# Altium schematic symbol library actives.SchLib: 47 symbols
Pins are listed as number, name and electrical type; pins without a type are passive.

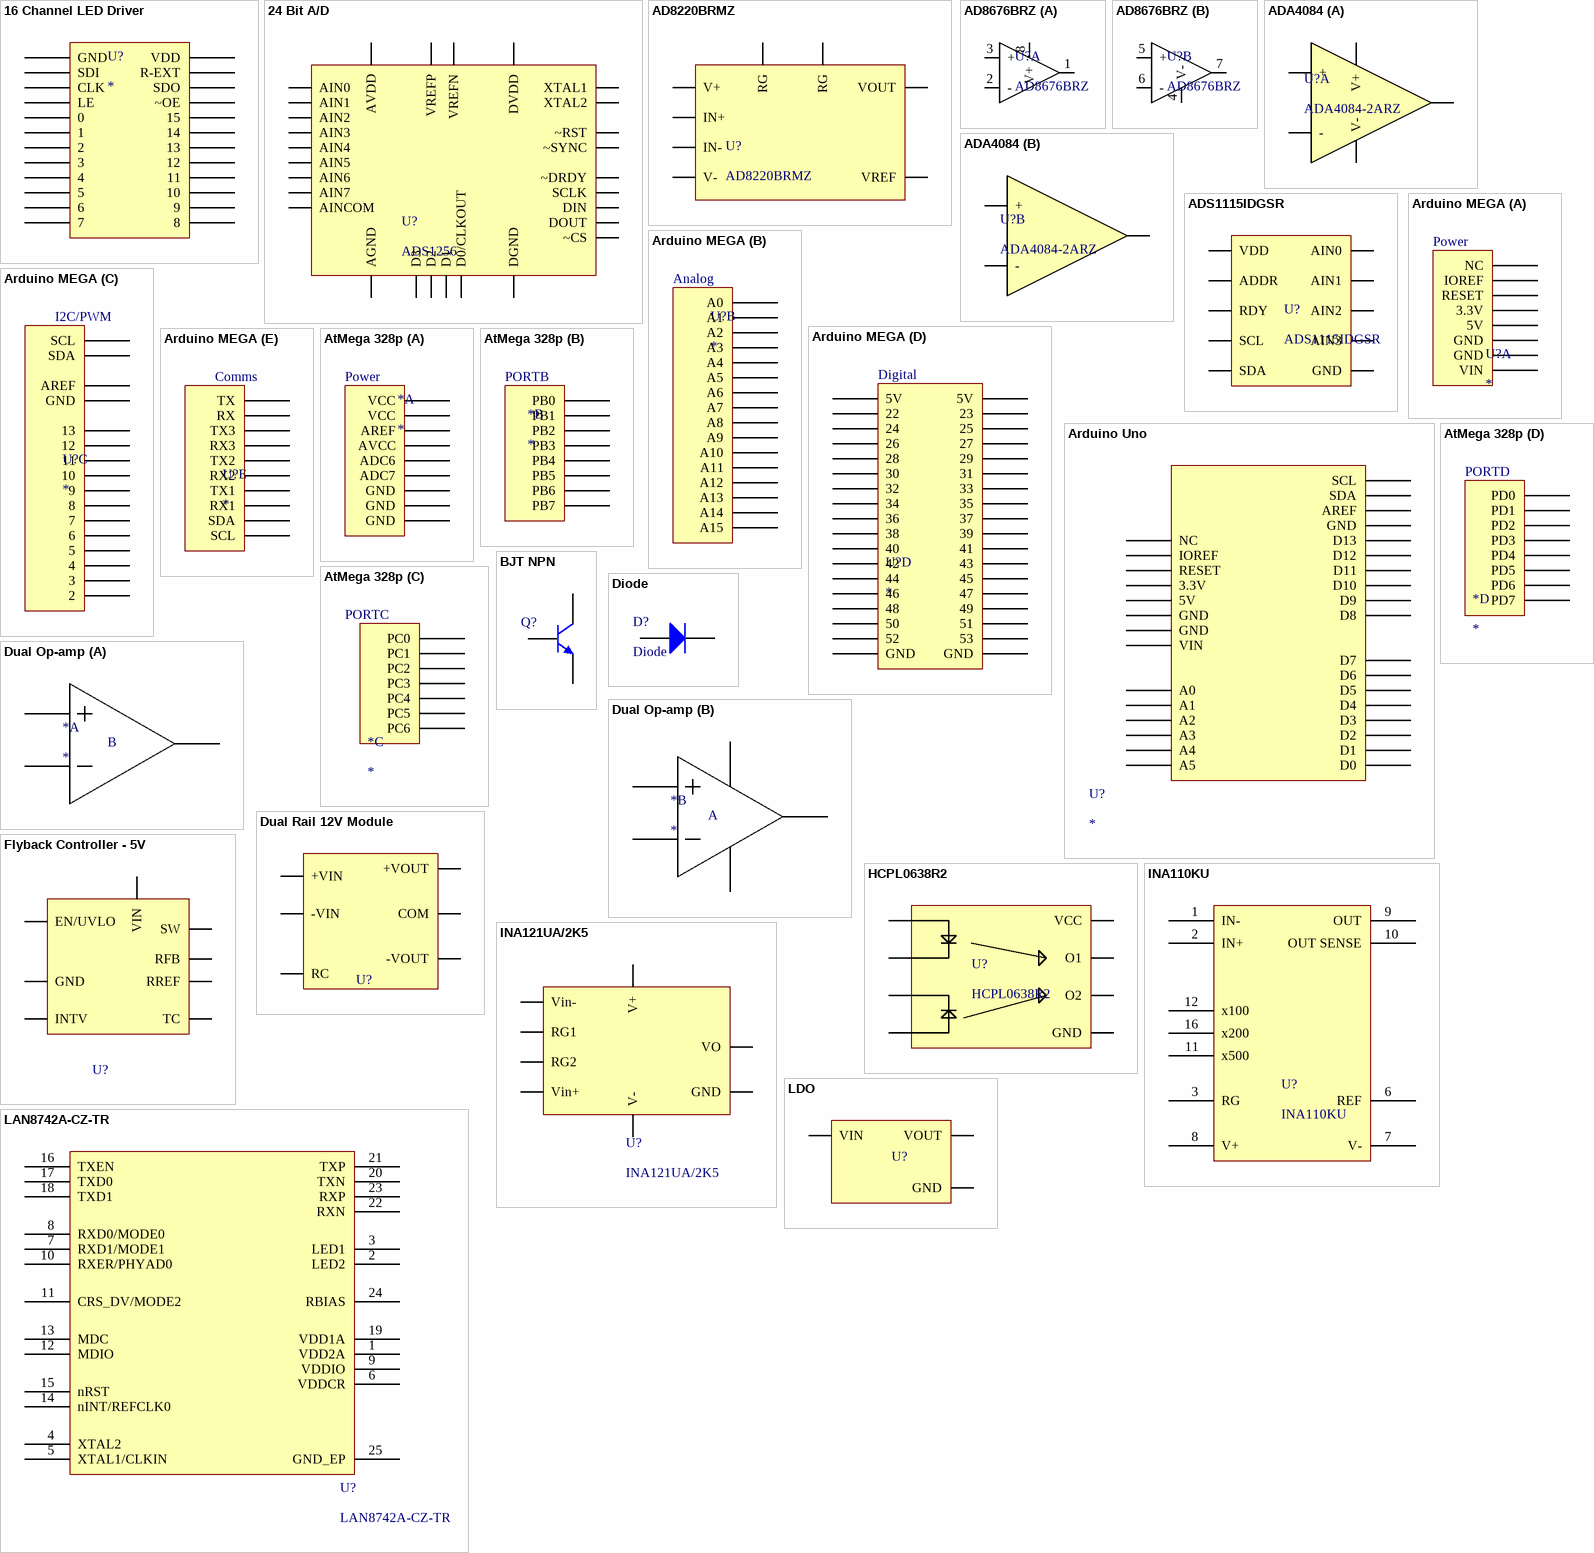
[diagram p0: symbols 16 Channel LED Driver to LDO]

## 16 Channel LED Driver
designator U?
16 Channel LED Driver; Manufactuerer Part #: STP16CPC26MTR; Manufactuerer Part #: TLC5925IDWR
footprint SOIC-24
pins: 1 GND, 2 SDI, 3 CLK, 4 LE, 5 0, 6 1, 7 2, 8 3, 9 4, 10 5, 11 6, 12 7, 13 8, 14 9, 15 10, 16 11, 17 12, 18 13, 19 14, 20 15, 21 ~OE, 22 SDO, 23 R-EXT, 24 VDD

## 24 Bit A/D
designator U?, comment ADS1256
ADS1256 24-bit A/D; Manufacturer Part #: ADS1256IDBR; Manufacturer: Texas Instruments; Inputs: 8; Bit Depth: 24; Digikey Part #: 296-25898-1-ND
footprint SSOP28
pins: 1 AVDD, 2 AGND, 3 VREFN, 4 VREFP, 5 AINCOM, 6 AIN0, 7 AIN1, 8 AIN2, 9 AIN3, 10 AIN4, 11 AIN5, 12 AIN6, 13 AIN7, 14 ~SYNC, 15 ~RST, 16 DVDD, 17 DGND, 18 XTAL2, 19 XTAL1, 20 ~CS, 21 ~DRDY, 22 DOUT, 23 DIN, 24 SCLK, 25 D0/CLKOUT, 26 D1, 27 D2, 28 D3

## AD8220BRMZ
designator U?
IC INST AMP 1 CIRCUIT 8MSOP; Manufacturer: Analog Devices Inc.; Part Number: AD8220BRMZ; Digikey Part Number: AD8220BRMZ-ND
footprint MSSOP-8
pins: 1 IN-, 2 RG, 3 RG, 4 IN+, 5 V-, 6 VREF, 7 VOUT, 8 V+

## AD8676BRZ
designator U?
IC OPAMP GP 2 CIRCUIT 8SOIC; Manufacturer: Analog Devices Inc.; Part Number: AD8676BRZ; Digikey Part Number: AD8676BRZ-ND
footprint SOIC8
part A pins: 1 OUT, 2 -, 3 +, 8 V+
part B pins: 4 V-, 5 +, 6 -, 7 OUT

## ADA4084
designator U?, comment ADA4084-2ARZ
IC OPAMP GP 2 CIRCUIT 8SOIC; Manufacturer: Analog Devices Inc.; Part Number: ADA4084-2ARZ; Digikey Part Number: ADA4084-2ARZ-ND
footprint SOIC8
part A pins: 1, 2 -, 3 +, 4 V-, 8 V+
part B pins: 5 +, 6 -, 7

## ADS1115IDGSR
designator U?
IC ADC 16BIT SIGMA-DELTA 10VSSOP; Manufacturer: Texas Instruments; Part Number: ADS1115IDGSR; Digikey Part Number: 296-38849-1-ND
footprint VSSOP-10
pins: 1 ADDR, 2 RDY, 3 GND, 4 AIN0, 5 AIN1, 6 AIN2, 7 AIN3, 8 VDD, 9 SDA, 10 SCL

## Arduino MEGA
designator U?
Arduino MEGA 2560
footprint Arduino_mega
part A pins: 62 NC, 63 IOREF, 64 RESET, 65 3.3V, 66 5V, 67 GND, 68 GND, 69 VIN
part B pins: 70 A0, 71 A1, 72 A2, 73 A3, 74 A4, 75 A5, 76 A6, 77 A7, 78 A8, 79 A9, 80 A10, 81 A11, 82 A12, 83 A13, 84 A14, 85 A15
part C pins: 2, 3, 4, 5, 6, 7, 8, 9, 10, 11, 12, 13, 54 SCL, 55 SDA, 56 AREF, 57 GND
part D pins: 22, 23, 24, 25, 26, 27, 28, 29, 30, 31, 32, 33, 34, 35, 36, 37, 38, 39, 40, 41, 42, 43, 44, 45, 46, 47, 48, 49, 50, 51, 52, 53, 58 5V, 59 5V, 60 GND, 61 GND
part E pins: 0 RX, 1 TX, 14 TX3, 15 RX3, 16 TX2, 17 RX2, 18 TX1, 19 RX1, 20 SDA, 21 SCL
part A text: Power
part B text: Analog
part C text: I2C/PWM
part D text: Digital
part E text: Comms

## Arduino Uno
designator U?
Arduino Uno Shield
footprint Arduino_Uno
pins: 0 D0, 1 D1, 2 D2, 3 D3, 4 D4, 5 D5, 6 D6, 7 D7, 8 D8, 9 D9, 10 D10, 11 D11, 12 D12, 13 D13, 14 GND, 15 AREF, 16 SDA, 17 SCL, 18 A5, 19 A4, 20 A3, 21 A2, 22 A1, 23 A0, 24 VIN, 25 GND, 26 GND, 27 5V, 28 3.3V, 29 RESET, 30 IOREF, 31 NC

## AtMega 328p
designator *
AtMega 328p SMD
footprint TQFP-32
part A pins: 3 GND, 4 VCC, 5 GND, 6 VCC, 18 AVCC, 19 ADC6, 20 AREF, 21 GND, 22 ADC7
part B pins: 7 PB6, 8 PB7, 12 PB0, 13 PB1, 14 PB2, 15 PB3, 16 PB4, 17 PB5
part C pins: 23 PC0, 24 PC1, 25 PC2, 26 PC3, 27 PC4, 28 PC5, 29 PC6
part D pins: 1 PD3, 2 PD4, 9 PD5, 10 PD6, 11 PD7, 30 PD0, 31 PD1, 32 PD2
part A text: Power
part B text: PORTB
part C text: PORTC
part D text: PORTD

## BJT NPN
designator Q?, comment NPN  (value not drawn)
MMBT2222
footprint SOT-23
pins: 1 B, 2 E, 3 C

## Diode
designator D?
1N4007
footprint Diode TH
pins: 1 A, 2 K

## Dual Op-amp
designator *
Dual Op-amp
footprint SOIC8
part A pins: 5, 6, 7
part B pins: 1, 2, 3, 4, 8
part A text: B
part B text: A

## Dual Rail 12V Module
designator U?  (value not drawn)
+/- 12V Module; Manufacturer Part #: CCG304812D; Manufacturer: TDK-Lambda Americas; Digikey Part #: 285-2996-ND
footprint 6-DIP Module
pins: 1 RC, 2 -VIN, 3 +VIN, 4 -VOUT, 5 COM, 6 +VOUT

## Flyback Controller - 5V
designator U?  (value not drawn)
Flyback Regulator 5V; Manufacturer Part #: LT8304ES8E-1#PBF; Manufacturer: Analog Devices; Digikey Part #: LT8304ES8E-1#PBF-ND
footprint SOIC-8 POWERPAD
pins: 1 EN/UVLO, 2 INTV, 3 VIN, 4 GND, 5 SW, 6 RFB, 7 RREF, 8 TC

## HCPL0638R2
designator U?
OPTOISO 3.75KV 2CH OPEN COLL 8SO; Manufacturer: ON Semiconductor; Part Number: HCPL0638R2; Digikey Part Number: HCPL0638R2CT-ND
footprint SOIC8
pins: 1 +1, 2 41, 3, 4, 5 GND, 6 O2, 7 O1, 8 VCC

## INA110KU
designator U?
IC INST AMP 1 CIRCUIT 16SOIC; Manufacturer: Texas Instruments; Part Number: INA110KU; Digikey Part Number: INA110KU-ND
footprint SOIC-16
pins: 1 IN-, 2 IN+, 3 RG, 6 REF, 7 V-, 8 V+, 9 OUT, 10 OUT SENSE, 11 x500, 12 x100, 16 x200

## INA121UA/2K5
designator U?
IC INST AMP 1 CIRCUIT 8SOIC; Manufacturer: Texas Instruments; Digikey Part #: 296-38944-1-ND; Manufacturer Part #: INA121UA/2K5
footprint SOIC8
pins: 1 RG1, 2 Vin-, 3 Vin+, 4 V-, 5 GND, 6 VO, 7 V+, 8 RG2

## LAN8742A-CZ-TR
designator U?
IC TRANSCEIVER 1/1 24SQFN; Manufacturer: Microchip Technology; Part Number: LAN8742A-CZ-TR; Digikey Part Number: LAN8742A-CZ-CT-ND
footprint SQFN24_4X4MC
pins: 1 VDD2A, 2 LED2, 3 LED1, 4 XTAL2, 5 XTAL1/CLKIN, 6 VDDCR, 7 RXD1/MODE1, 8 RXD0/MODE0, 9 VDDIO, 10 RXER/PHYAD0, 11 CRS_DV/MODE2, 12 MDIO, 13 MDC, 14 nINT/REFCLK0, 15 nRST, 16 TXEN, 17 TXD0, 18 TXD1, 19 VDD1A, 20 TXN, 21 TXP, 22 RXN, 23 RXP, 24 RBIAS, 25 GND_EP

## LDO
designator U?  (value not drawn)
Linear Regulator
footprint DPAK
footprint D2PAK
pins: 1 VIN, 2 GND, 3 VOUT

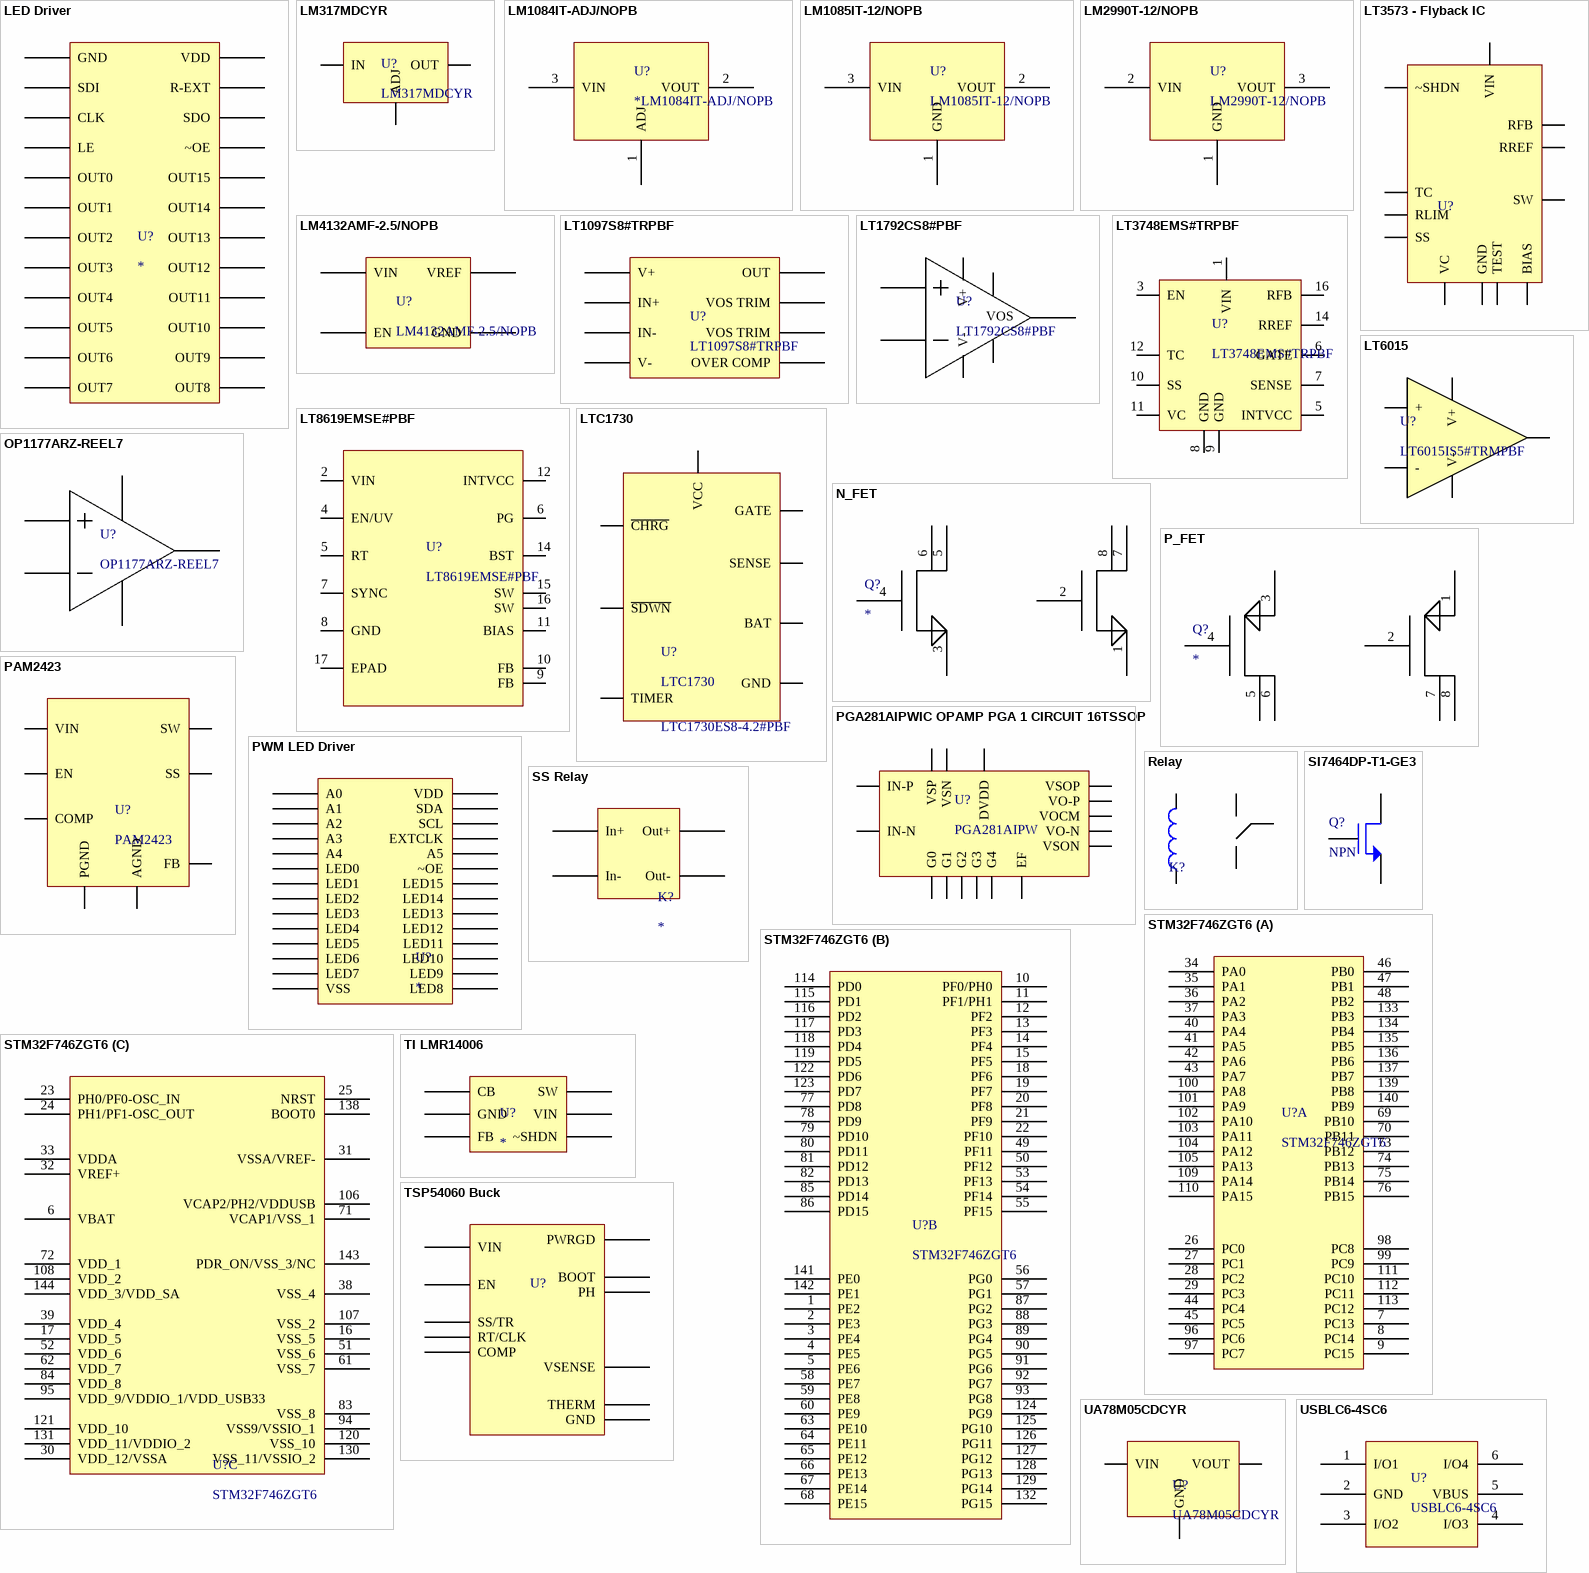
[diagram p1: symbols LED Driver to USBLC6-4SC6]

## LED Driver
designator U?
STP16CPC26TTR
footprint TSSOP24
pins: 1 GND, 2 SDI, 3 CLK, 4 LE, 5 OUT0, 6 OUT1, 7 OUT2, 8 OUT3, 9 OUT4, 10 OUT5, 11 OUT6, 12 OUT7, 13 OUT8, 14 OUT9, 15 OUT10, 16 OUT11, 17 OUT12, 18 OUT13, 19 OUT14, 20 OUT15, 21 ~OE, 22 SDO, 23 R-EXT, 24 VDD

## LM317MDCYR
designator U?
IC REG LIN POS ADJ 500MA SOT223; Manufacturer: Texas Instruments; Part Number: LM317MDCYR; Digikey Part Number: 296-12631-1-ND
footprint SOT-223-4
pins: 1 ADJ, 2 OUT, 3 IN

## LM1084IT-ADJ/NOPB
designator U?, comment *LM1084IT-ADJ/NOPB
IC REG LINEAR POS ADJ 5A TO220-3; Manufacturer: Texas Instruments; Part Number: LM1084IT-ADJ/NOPB; Digikey Part Number: LM1084IT-ADJ/NOPB-ND
footprint TO-220-3
pins: 1 ADJ, 2 VOUT, 3 VIN

## LM1085IT-12/NOPB
designator U?
IC REG LINEAR 12V 3A TO220-3; Manufacturer: Texas Instruments; Part Number: LM1085IT-12/NOPB; Digikey Part Number: LM1085IT-12/NOPB-ND
footprint TO-220-3
pins: 1 GND, 2 VOUT, 3 VIN

## LM2990T-12/NOPB
designator U?
IC REG LINEAR -12V 1.8A TO220-3; Manufacturer: Texas Instruments; Part Number: LM2990T-12/NOPB; Digikey Part Number: LM2990T-12/NOPB-ND
footprint TO-220-3
pins: 1 GND, 2 VIN, 3 VOUT

## LM4132AMF-2.5/NOPB
designator U?
IC VREF SERIES 0.05% SOT23-5; Manufacturer: Texas Instruments; Part Number: LM4132AMF-2.5/NOPB; Digikey Part Number: LM4132AMF-2.5/NOPBCT-ND
footprint SOT-23-5
pins: 2 GND, 3 EN, 4 VIN, 5 VREF

## LT1097S8#TRPBF
designator U?
IC OPAMP GP 1 CIRCUIT 8SO; Manufacturer: Linear Technology/Analog Devices; Part Number: LT1097S8#TRPBF; Digikey Part Number: LT1097S8#TRPBFCT-ND
footprint SOIC8
pins: 1 VOS TRIM, 2 IN-, 3 IN+, 4 V-, 5 OVER COMP, 6 OUT, 7 V+, 8 VOS TRIM

## LT1792CS8#PBF
designator U?
IC OPAMP JFET 1 CIRCUIT 8SO; Part Number: LT1792CS8#PBF-ND; Manufacturer: Analog Devices Inc.; Digikey Part Number: LT1792CS8#PBF
footprint SOIC8
pins: 1 VOS, 2, 3, 4 V-, 5 VOS, 6, 7 V+

## LT3573 - Flyback IC
designator U?, comment LT3573  (value not drawn)
Flyback Controller; Manufacturer Part #: LT3573EMSE#TRPBF; Manufacturer: Analog Devices; Digikey Part #: LT3573EMSE#TRPBFCT-ND
footprint LT3573
pins: 1 GND, 2 TEST, 4 SW, 5 VIN, 6 BIAS, 7 ~SHDN, 10 SS, 11 RLIM, 12 VC, 13 RFB, 14 RREF, 15 TC

## LT3748EMS#TRPBF
designator U?
IC REG CTRLR FLYBACK 16MSOP; Manufacturer: Linear Technology/Analog Devices; Part Number: LT3748EMS#TRPBF; Digikey Part Number: LT3748EMS#TRPBFCT-ND
footprint MSSOP-16 (12 pin)
pins: 1 VIN, 3 EN, 5 INTVCC, 6 GATE, 7 SENSE, 8 GND, 9 GND, 10 SS, 11 VC, 12 TC, 14 RREF, 16 RFB

## LT6015
designator U?, comment LT6015IS5#TRMPBF
IC OPAMP GP 1 CIRCUIT TSOT23-5; Manufacturer: Linear Technology/Analog Devices; Part Number: LT6015IS5#TRMPBF; Digikey Part Number: LT6015IS5#TRMPBFCT-ND
footprint SOT-23-5
pins: 1, 2 V-, 3 +, 4 -, 5 V+

## LT8619EMSE#PBF
designator U?
IC REG BUCK 0.8V 1.2A 16MSOP; Manufacturer: Linear Technology/Analog Devices; Part Number: LT8619EMSE#PBF; Digikey Part Number: LT8619EMSE#PBF-ND
footprint MSSOP-16-EPAD
pins: 2 VIN, 4 EN/UV, 5 RT, 6 PG, 7 SYNC, 8 GND, 9 FB, 10 FB, 11 BIAS, 12 INTVCC, 14 BST, 15 SW, 16 SW, 17 EPAD

## LTC1730
designator U?  Manufacturer Part Number: LTC1730ES8-4.2#PBF
IC BATT PULSE CHRGR LI-ION 8SOIC; Manufacturer: Linear Technology/Analog Devices; Digikey Part Number: LTC1730ES8-4.2#PBF-ND
footprint SOIC8
pins: 1 SENSE, 2 VCC, 3 ~{CHRG}, 4 GND, 5 TIMER, 6 ~{SDWN}, 7 GATE, 8 BAT

## N_FET
designator Q?
STS8DN3LLH5
footprint SOIC8
pins: 1 D2, 2 G2, 3 D1, 4 G1, 5 S1, 6 D1, 7 S2, 8 D2

## OP1177ARZ-REEL7
designator U?
IC OPAMP GP 1 CIRCUIT 8SOIC; Manufacturer: Analog Devices Inc.; Part Number: OP1177ARZ-REEL7; Digikey Part Number: OP1177ARZ-REEL7CT-ND
footprint SOIC8
pins: 2, 3, 4, 6, 7

## P_FET
designator Q?
AO4803A
footprint SOIC8
pins: 1 S2, 2 G2, 3 S1, 4 G1, 5 D1, 6 D1, 7 D2, 8 D2

## PAM2423
designator U?
IC REG BOOST ADJUSTABLE 5.5A 8SO; Manufacturer Part Number: PAM2423AECADJR; Manufacturer: Diodes Incorporated; Min Input Voltage: 2.7 V; Max Input Voltage: 5.5 V; Max Output Voltage: 24 V; Switching Frequency: 520 kHz; Digikey Part Number: PAM2423AECADJRDICT-ND; Max Current: 5.5 A; Min Output Voltage: 2.7 V
footprint SOIC8
pins: 1 PGND, 2 VIN, 3 EN, 4 COMP, 5 AGND, 6 FB, 7 SS, 8 SW

## PGA281AIPWIC OPAMP PGA 1 CIRCUIT 16TSSOP
designator U?, comment PGA281AIPW
IC OPAMP PGA 1 CIRCUIT 16TSSOP; Manufacturer: Texas Instruments; Digikey Part Number: 296-36433-5-ND; Part Number: PGA281AIPW
footprint TSSOP-16
pins: 1 DVDD, 2 EF, 3 G4, 4 G3, 5 G2, 6 G1, 7 G0, 8 VO-N, 9 VO-P, 10 VOCM, 11 VSOP, 12 VSON, 13 VSP, 14 IN-P, 15 IN-N, 16 VSN

## PWM LED Driver
designator U?
PCA9685
footprint TSSOP28
pins: 1 A0, 2 A1, 3 A2, 4 A3, 5 A4, 6 LED0, 7 LED1, 8 LED2, 9 LED3, 10 LED4, 11 LED5, 12 LED6, 13 LED7, 14 VSS, 15 LED8, 16 LED9, 17 LED10, 18 LED11, 19 LED12, 20 LED13, 21 LED14, 22 LED15, 23 ~OE, 24 A5, 25 EXTCLK, 26 SCL, 27 SDA, 28 VDD

## Relay
designator K?  (value not drawn)
G5LE-1-36 DC5
footprint Relay 5-pin SPDT
pins: 1, 2, 3, 4, 5

## SI7464DP-T1-GE3
designator Q?, comment NPN
MOSFET N-CH 200V 1.8A PPAK SO-8; Part Number: SI7464DP-T1-GE3; Manufacturer: Vishay Siliconix; Digikey Part Number: SI7464DP-T1-GE3CT-ND
footprint SI7464DP-T1-GE3
pins: 1 S, 4 G, 5 D

## SS Relay
designator K?
SS Relay
footprint Relay 4-SIP
pins: 1 Out+, 2 Out-, 3 In+, 4 In-

## STM32F746ZGT6
designator U?
IC MCU 32BIT 1MB FLASH 144LQFP; Manufacturer: STMicroelectronics; Part Number: STM32F746ZGT6; Digikey Part Number: 497-15820-ND
footprint LQFP-144
part A pins: 7 PC13, 8 PC14, 9 PC15, 26 PC0, 27 PC1, 28 PC2, 29 PC3, 34 PA0, 35 PA1, 36 PA2, 37 PA3, 40 PA4, 41 PA5, 42 PA6, 43 PA7, 44 PC4, 45 PC5, 46 PB0, 47 PB1, 48 PB2, 69 PB10, 70 PB11, 73 PB12, 74 PB13, 75 PB14, 76 PB15, 96 PC6, 97 PC7, 98 PC8, 99 PC9, 100 PA8, 101 PA9, 102 PA10, 103 PA11, 104 PA12, 105 PA13, 109 PA14, 110 PA15, 111 PC10, 112 PC11, 113 PC12, 133 PB3, 134 PB4, 135 PB5, 136 PB6, 137 PB7, 139 PB8, 140 PB9
part B pins: 1 PE2, 2 PE3, 3 PE4, 4 PE5, 5 PE6, 10 PF0/PH0, 11 PF1/PH1, 12 PF2, 13 PF3, 14 PF4, 15 PF5, 18 PF6, 19 PF7, 20 PF8, 21 PF9, 22 PF10, 49 PF11, 50 PF12, 53 PF13, 54 PF14, 55 PF15, 56 PG0, 57 PG1, 58 PE7, 59 PE8, 60 PE9, 63 PE10, 64 PE11, 65 PE12, 66 PE13, 67 PE14, 68 PE15, 77 PD8, 78 PD9, 79 PD10, 80 PD11, 81 PD12, 82 PD13, 85 PD14, 86 PD15, 87 PG2, 88 PG3, 89 PG4, 90 PG5, 91 PG6, 92 PG7, 93 PG8, 114 PD0, 115 PD1, 116 PD2, 117 PD3, 118 PD4, 119 PD5, 122 PD6, 123 PD7, 124 PG9, 125 PG10, 126 PG11, 127 PG12, 128 PG13, 129 PG14, 132 PG15, 141 PE0, 142 PE1
part C pins: 6 VBAT, 16 VSS_5, 17 VDD_5, 23 PH0/PF0-OSC_IN, 24 PH1/PF1-OSC_OUT, 25 NRST, 30 VDD_12/VSSA, 31 VSSA/VREF-, 32 VREF+, 33 VDDA, 38 VSS_4, 39 VDD_4, 51 VSS_6, 52 VDD_6, 61 VSS_7, 62 VDD_7, 71 VCAP1/VSS_1, 72 VDD_1, 83 VSS_8, 84 VDD_8, 94 VSS9/VSSIO_1, 95 VDD_9/VDDIO_1/VDD_USB33, 106 VCAP2/PH2/VDDUSB, 107 VSS_2, 108 VDD_2, 120 VSS_10, 121 VDD_10, 130 VSS_11/VSSIO_2, 131 VDD_11/VDDIO_2, 138 BOOT0, 143 PDR_ON/VSS_3/NC, 144 VDD_3/VDD_SA

## TI LMR14006
designator U?
Adjustable Switching Regulator 600mA
footprint TSOP-6L
pins: 1 CB, 2 GND, 3 FB, 4 ~SHDN, 5 VIN, 6 SW

## TSP54060 Buck
designator U?  (value not drawn)
Split-rail buck converter; Manufacturer: Texas Instruments; Manufacturer Part #: TPS54160ADGQR; Output Current: 1.5A; Max Input Voltage: 60V; Digikey Part #: 296-36807-1-ND
footprint VSSOP-10
pins: 1 BOOT, 2 VIN, 3 EN, 4 SS/TR, 5 RT/CLK, 6 PWRGD, 7 VSENSE, 8 COMP, 9 GND, 10 PH, 11 THERM

## UA78M05CDCYR
designator U?
IC REG LINEAR 5V 500MA SOT223-4; Manufacturer: Texas Instruments; Part Number: UA78M05CDCYR; Digikey Part Number: 296-12290-1-ND; Output Current: 500mA; Output Voltage: 5V
footprint SOT-223-4
pins: 1 VIN, 2 GND, 3 VOUT

## USBLC6-4SC6
designator U?
TVS DIODE 5.25V 17V SOT23-6; Manufacturer: STMicroelectronics; Part Number: USBLC6-4SC6; Digikey Part Number: 497-4492-1-ND
footprint SOT23-6L
pins: 1 I/O1, 2 GND, 3 I/O2, 4 I/O3, 5 VBUS, 6 I/O4

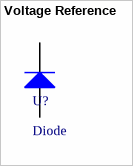
[diagram p2: symbol Voltage Reference]

## Voltage Reference
designator U?, comment Diode
Voltage Reference
footprint SOT-23
pins: 1 K, 2 A